# Altium schematic symbol library W25Q64JVSSIQ.Schlib: 1 symbol
Pins are listed as number, name and electrical type; pins without a type are passive.

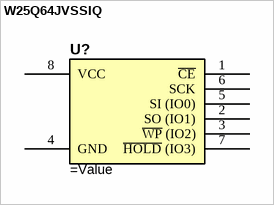
[diagram p0: symbol W25Q64JVSSIQ]

## W25Q64JVSSIQ
designator U?
NOR Flash Serial (SPI, Dual SPI, Quad SPI) 3V/3.3V 64M-bit 16M x 8 6ns 8-Pin SOIC Tube
pins: 1 ~{CE}, 2 SO (IO1), 3 ~{WP} (IO2), 4 GND, 5 SI (IO0), 6 SCK, 7 ~{HOLD} (IO3), 8 VCC